# Altium schematic symbol library SCH - POWER - SWITCHMODE - TI TPS65197BRUY.SchLib: 1 symbol
Pins are listed as number, name and electrical type; pins without a type are passive.

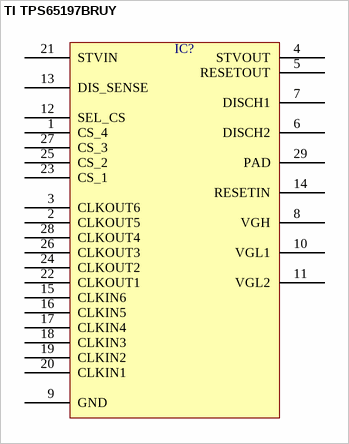
[diagram p0: symbol TI TPS65197BRUY]

## TI TPS65197BRUY
designator IC?  (value not drawn)
pins: 1 CS_4, 2 CLKOUT5, 3 CLKOUT6, 4 STVOUT, 5 RESETOUT, 6 DISCH2, 7 DISCH1, 8 VGH, 9 GND, 10 VGL1, 11 VGL2, 12 SEL_CS, 13 DIS_SENSE, 14 RESETIN, 15 CLKIN6, 16 CLKIN5, 17 CLKIN4, 18 CLKIN3, 19 CLKIN2, 20 CLKIN1, 21 STVIN, 22 CLKOUT1, 23 CS_1, 24 CLKOUT2, 25 CS_2, 26 CLKOUT3, 27 CS_3, 28 CLKOUT4, 29 PAD